# Altium footprint library WirelessModule.PcbLib: 4 footprints
Each footprint in its own frame and in the unit in brackets; x right, y up, seen from the top. Pads: shape width x height; smd on the part's side, far side on the other; paste and mask are expansions set on the pad; w line width, h text height; cw(c..) or ccw(c..) is an arc to the next point about the centre after c.
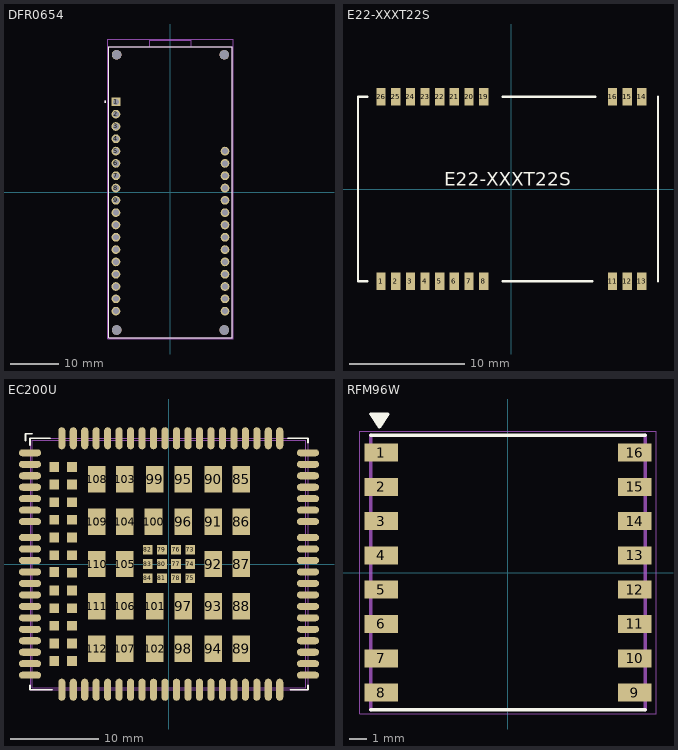
[diagram p0: the footprints below, top view; thin cyan lines are the x and y axes]

## DFR0654 [mm] "FIREBEETLE ESP32-E IOT MICROCONT"
pads (36):
  rect 1.8x1.8 hole 1.2: 1(-11.25,18.68)
  round 1.8 hole 1.2: 2(-11.25,16.14) 3(-11.25,13.6) 4(-11.25,11.06) 5(-11.25,8.52) 6(-11.25,5.98) 7(-11.25,3.44) 8(-11.25,0.9) 9(-11.25,-1.64) 10(-11.25,-4.18) 11(-11.25,-6.72) 12(-11.25,-9.26) 13(-11.25,-11.8) 14(-11.25,-14.34) 15(-11.25,-16.88) 16(-11.25,-19.42) 17(-11.25,-21.96) 18(-11.25,-24.5) 19(11.25,-24.5) 20(11.25,-21.96) 21(11.25,-19.42) 22(11.25,-16.88) 23(11.25,-14.34) 24(11.25,-11.8) 25(11.25,-9.26) 26(11.25,-6.72) 27(11.25,-4.18) 28(11.25,-1.64) 29(11.25,0.9) 30(11.25,3.44) 31(11.25,5.98) 32(11.25,8.52)
  round 2 hole 2 unplated: ""(-11.1,-28.4) ""(-11.1,28.4) ""(11.1,-28.4) ""(11.1,28.4)
Top Overlay:
  circle w0.2: c-13.45,18.68 r0.1
  lines w0.127: -12.7,-30 -12.7,30 12.7,30 12.7,-30 -12.7,-30
Mechanical 13:
  circle w0.2: c-13.45,18.68 r0.1
  lines w0.127: -4.3,30 -12.7,30 -12.7,-30 12.7,-30 12.7,30 4.3,30 ; -4.3,30 -4.3,31.4 4.3,31.4 4.3,30 ; -4.3,30 4.3,30
Mechanical 15:
  lines w0.05: -12.95,-30.25 -12.95,31.65 12.95,31.65 12.95,-30.25 -12.95,-30.25
3D body "18-Pin Header - Female - 2.54mm.step": height 5, standoff -3, extent -12.5,-26.02 -10,20.2
3D body "14-Pin Header - Female - 2.54mm.step": height 5, standoff -3, extent 10,-26.02 12.5,10.04
3D body "step_temp.STEP": height 12.2, standoff 5.1, extent -12.7,-30.319 12.7,31.081

## E22-XXXT22S [mm]
pads (22):
  rect 0.8x1.5 smd: 1(-11.3,-8) 2(-10.03,-8) 3(-8.76,-8) 4(-7.49,-8) 5(-6.22,-8) 6(-4.95,-8) 7(-3.68,-8) 8(-2.41,-8) 11(8.76,-8) 12(10.03,-8) 13(11.3,-8) 14(11.3,8) 15(10.03,8) 16(8.76,8) 19(-2.41,8) 20(-3.68,8) 21(-4.95,8) 22(-6.22,8) 23(-7.49,8) 24(-8.76,8) 25(-10.03,8) 26(-11.3,8)
Top Overlay:
  lines w0.2: -12.5,-8 -13.3,-8 -13.3,8 -12.5,8 ; -0.75,-8 7,-8 ; -0.75,8 7.25,8 ; 12.7,-8 12.7,8
  text "E22-XXXT22S" at -5.807,-0.126 h2
3D body "E22-xxxT22S(3D).step": height 2.2, standoff -0.3, extent -13.25,-8 12.75,8

## EC200U [mm] "LTE CAT1 MODEM 144 SMD"
pads (144):
  rrect100% 2.5x0.8 smd: 1(-15.75,12.6) 2(-15.75,11.3) 3(-15.75,10) 4(-15.75,8.7) 5(-15.75,7.4) 6(-15.75,6.1) 7(-15.75,4.8) 8(-15.75,0.4) 9(-15.75,-0.9) 10(-15.75,-2.2) 11(-15.75,-3.5) 12(-15.75,-4.8) 13(-15.75,-6.1) 14(-15.75,-7.4) 15(-15.75,-8.7) 16(-15.75,-10) 17(-15.75,-11.3) 18(-15.75,-12.6) 37(15.75,-12.6) 38(15.75,-11.3) 39(15.75,-10) 40(15.75,-8.7) 41(15.75,-7.4) 42(15.75,-6.1) 43(15.75,-4.8) 44(15.75,-3.5) 45(15.75,-2.2) 46(15.75,-0.9) 47(15.75,0.4) 48(15.75,4.8) 49(15.75,6.1) 50(15.75,7.4) 51(15.75,8.7) 52(15.75,10) 53(15.75,11.3) 54(15.75,12.6) 141(-15.75,3) 142(-15.75,1.7) 143(15.75,1.7) 144(15.75,3)
  rrect100% 0.8x2.5 smd: 19(-9.55,-14.25) 20(-8.25,-14.25) 21(-6.95,-14.25) 22(-5.65,-14.25) 23(-4.35,-14.25) 24(-3.05,-14.25) 25(-1.75,-14.25) 26(-0.45,-14.25) 27(0.85,-14.25) 28(2.15,-14.25) 29(3.45,-14.25) 30(4.75,-14.25) 31(6.05,-14.25) 32(7.35,-14.25) 33(8.65,-14.25) 34(9.95,-14.25) 35(11.25,-14.25) 36(12.55,-14.25) 55(12.55,14.25) 56(11.25,14.25) 57(9.95,14.25) 58(8.65,14.25) 59(7.35,14.25) 60(6.05,14.25) 61(4.75,14.25) 62(3.45,14.25) 63(2.15,14.25) 64(0.85,14.25) 65(-0.45,14.25) 66(-1.75,14.25) 67(-3.05,14.25) 68(-4.35,14.25) 69(-5.65,14.25) 70(-6.95,14.25) 71(-8.25,14.25) 72(-9.55,14.25) 113(-10.85,14.25) 114(-12.15,14.25) 115(-10.85,-14.25) 116(-12.15,-14.25)
  rect 1.1x1.1 smd: 73(2.4,1.6) 74(2.4,0) 75(2.4,-1.6) 76(0.8,1.6) 77(0.8,0) 78(0.8,-1.6) 79(-0.8,1.6) 80(-0.8,0) 81(-0.8,-1.6) 82(-2.4,1.6) 83(-2.4,0) 84(-2.4,-1.6) 117(-11,11) 118(-11,9) 119(-11,7) 120(-11,5) 121(-11,3) 122(-11,1) 123(-11,-1) 124(-11,-3) 125(-11,-5) 126(-11,-7) 127(-11,-9) 128(-11,-11) 129(-13,11) 130(-13,9) 131(-13,7) 132(-13,5) 133(-13,3) 134(-13,1) 135(-13,-0.9) 136(-13,-3) 137(-13,-5) 138(-13,-7) 139(-13,-9) 140(-13,-11)
  rect 2x3 smd: 85(8.2,9.6) 86(8.2,4.8) 87(8.2,0) 88(8.2,-4.8) 89(8.2,-9.6) 90(5,9.6) 91(5,4.8) 92(5,0) 93(5,-4.8) 94(5,-9.6) 95(1.6,9.6) 96(1.6,4.8) 97(1.6,-4.8) 98(1.6,-9.6) 99(-1.6,9.6) 100(-1.75,4.8) 101(-1.6,-4.8) 102(-1.6,-9.6) 103(-5,9.6) 104(-5,4.8) 105(-5,0) 106(-5,-4.8) 107(-5,-9.6) 108(-8.2,9.6) 109(-8.2,4.8) 110(-8.2,0) 111(-8.2,-4.8) 112(-8.2,-9.6)
Top Overlay:
  lines w0.2: -16.25,14 -16.25,14.75 -15.5,14.75 ; -15.75,-13.75 -15.75,-14.25 -13.25,-14.25 ; -15.75,13.5 -15.75,14.25 -13.5,14.25 ; 13.5,14.25 15.75,14.25 15.75,13.75 ; 13.75,-14.25 15.75,-14.25 15.75,-13.75
Mechanical 13:
  lines w0.1: -15.5,-14 15.5,-14 15.5,14 -15.5,14 -15.5,-14
Mechanical 15:
  lines w0.1: -15.75,-14.25 15.75,-14.25 15.75,14.25 -15.75,14.25 -15.75,-14.25
3D body "EC200U.stp": height 2.4, standoff 0, extent -15.5,-14 15.5,14

## RFM96W [mm] "LoRa 868MHz SX1276 RF Transreceiver Module RFM96W"
pads (16):
  rect 1.95x1.05 smd: 1(-7.4,7) 2(-7.4,5) 3(-7.4,3) 4(-7.4,1) 5(-7.4,-1) 6(-7.4,-3) 7(-7.4,-5) 8(-7.4,-7) 9(7.4,-7) 10(7.4,-5) 11(7.4,-3) 12(7.4,-1) 13(7.4,1) 14(7.4,3) 15(7.4,5) 16(7.4,7)
Top Overlay:
  lines w0.2: -8,-8 8,-8 ; -8,8 8,8 ; -7.75,8.875 -7.775,9.213 -7.54,9.19 -7.649,8.986 -7.649,8.877 -7.469,9.002 -7.406,9.213 -7.281,9.198 -7.25,9.174 -7.422,9.057 -7.477,9.01 -7.618,8.892 -7.626,8.853 -7.594,8.767 -7.563,8.728 -7.54,8.697 -7.508,8.712 -7.469,8.806 -7.477,8.845 -7.391,8.9 -7.359,8.947 -7.32,8.994 -7.273,9.096 -7.234,9.12 ; -8,9.25 -7,9.25 -7.5,8.5 -8,9.25
Mechanical 13:
  lines w0.2: -8,-8 -8,8 ; 8,-8 8,8
Mechanical 15:
  lines w0.05: -8.65,-8.25 -8.65,8.25 8.65,8.25 8.65,-8.25 -8.65,-8.25
3D body "RFM95 LoRa v15.step": height 2.04, standoff 0, extent -8,-8 8,8